# EAGLE library part PIC16F677-X/SO (library 16f677)
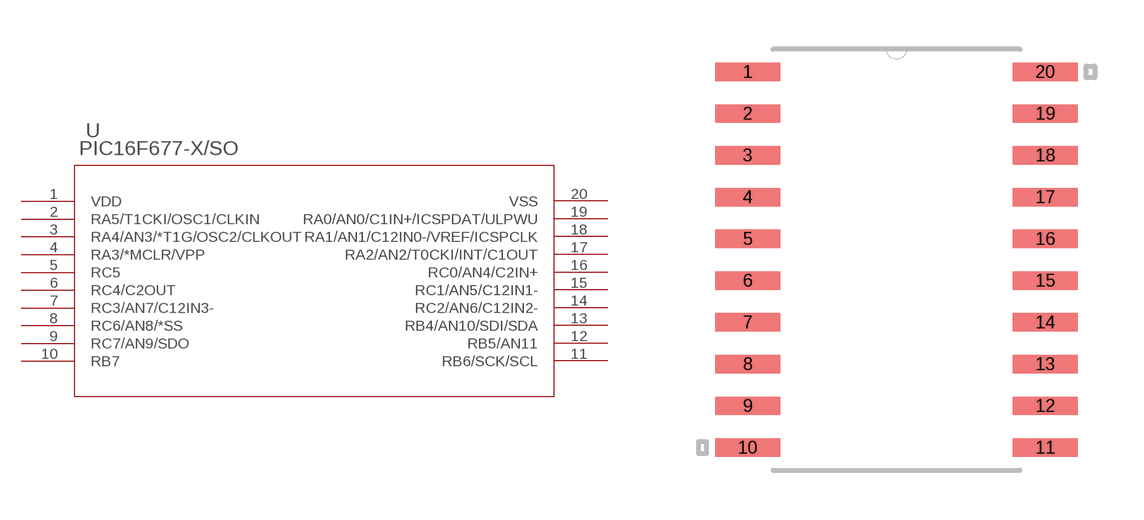
[diagram p0: symbol with the pads of SOIC20-W_MC; footprint SOIC20-W_MC]

Designator prefix -

## PIC16F677-X/SO  [SOIC20-W_MC]
1  VDD  pas
2  RA5/T1CKI/OSC1/CLKIN  pas
3  RA4/AN3/*T1G/OSC2/CLKOUT  pas
4  RA3/*MCLR/VPP  pas
5  RC5  pas
6  RC4/C2OUT  pas
7  RC3/AN7/C12IN3-  pas
8  RC6/AN8/*SS  pas
9  RC7/AN9/SDO  pas
10  RB7  pas
11  RB6/SCK/SCL  pas
12  RB5/AN11  pas
13  RB4/AN10/SDI/SDA  pas
14  RC2/AN6/C12IN2-  pas
15  RC1/AN5/C12IN1-  pas
16  RC0/AN4/C2IN+  pas
17  RA2/AN2/T0CKI/INT/C1OUT  pas
18  RA1/AN1/C12IN0-/VREF/ICSPCLK  pas
19  RA0/AN0/C1IN+/ICSPDAT/ULPWU  pas
20  VSS  pas

## Footprint SOIC20-W_MC (pad centres in mm)
smd 1.981 x 0.559: 1 -4.521,5.715; 2 -4.521,4.445; 3 -4.521,3.175; 4 -4.521,1.905; 5 -4.521,0.635; 6 -4.521,-0.635; 7 -4.521,-1.905; 8 -4.521,-3.175; 9 -4.521,-4.445; 10 -4.521,-5.715; 11 4.521,-5.715; 12 4.521,-4.445; 13 4.521,-3.175; 14 4.521,-1.905; 15 4.521,-0.635; 16 4.521,0.635; 17 4.521,1.905; 18 4.521,3.175; 19 4.521,4.445; 20 4.521,5.715